# Altium footprint library Semiconductor.PcbLib: 12 footprints
Each footprint in its own frame and in the unit in brackets; x right, y up, seen from the top. Pads: shape width x height; smd on the part's side, far side on the other; paste and mask are expansions set on the pad; w line width, h text height; cw(c..) or ccw(c..) is an arc to the next point about the centre after c.
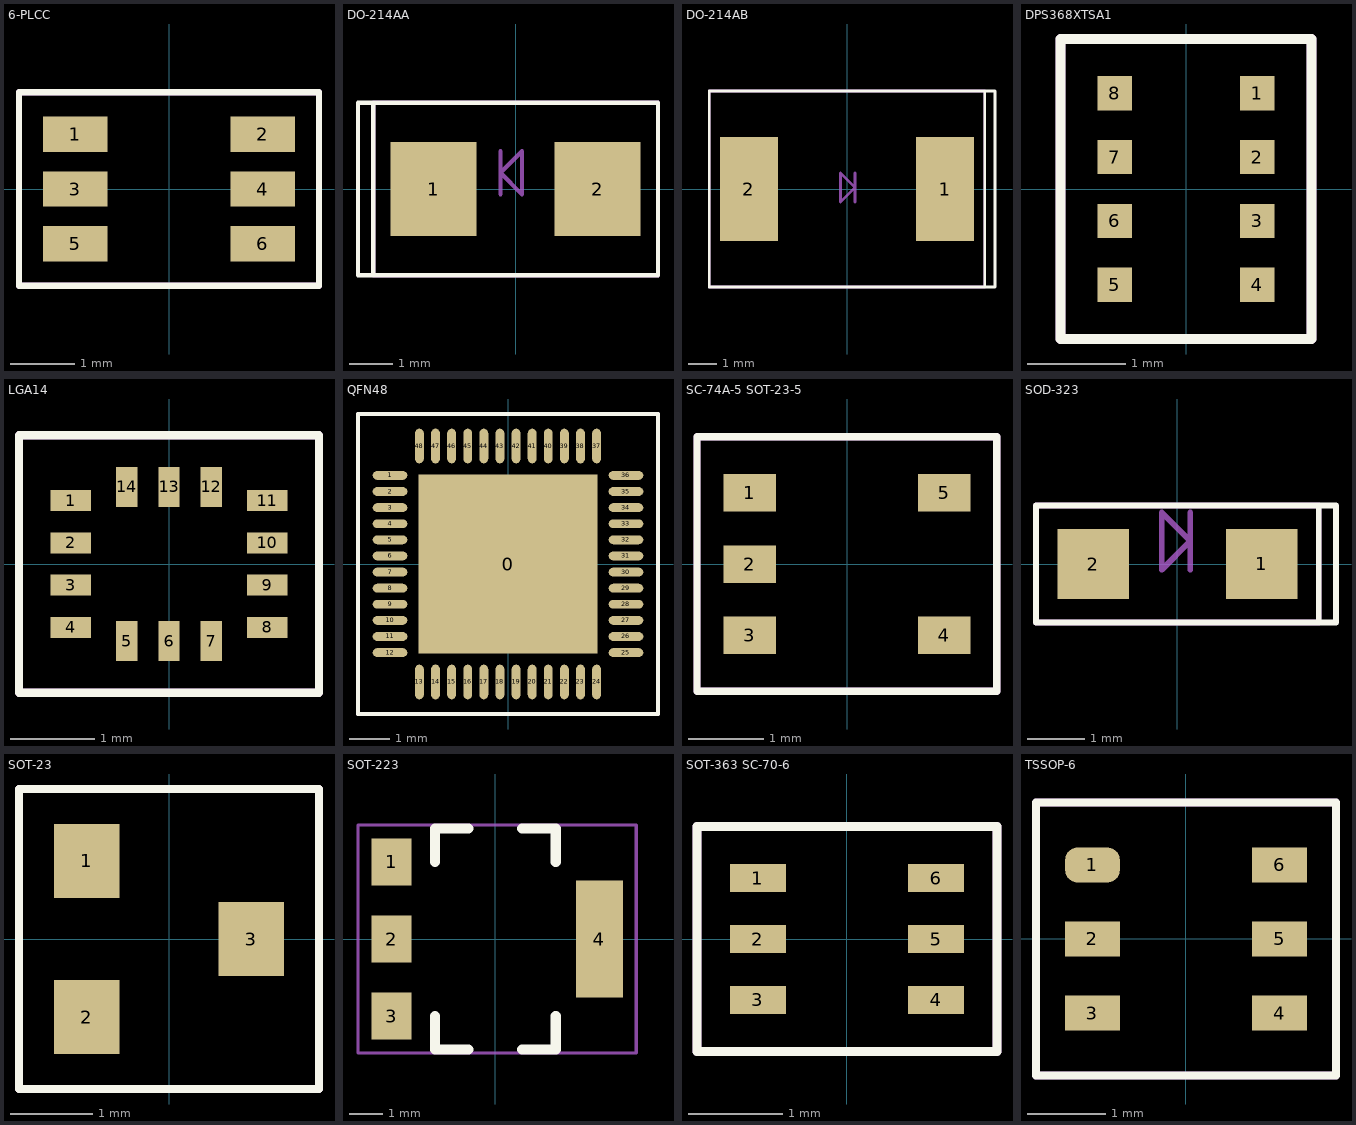
[diagram p0: the footprints below, top view; thin cyan lines are the x and y axes]

## 6-PLCC [mm] "6-PLCC"
pads (6):
  rect 1x0.55 smd: 1(-1.45,0.85) 2(1.45,0.85) 3(-1.45,0) 4(1.45,0) 5(-1.45,-0.85) 6(1.45,-0.85)
Top Overlay:
  lines w0.1: -2.325,-1.5 -2.325,1.5 2.325,1.5 ; -2.3,-1.5 2.325,-1.5 2.325,1.475
  text "." at -2.875,0.9 h0.7
Mechanical 12:
  lines w0.1: -2.325,-1.5 -2.325,1.5 2.325,1.5 ; -2.3,-1.5 2.325,-1.5 2.325,1.475
  text ".Designator" at -1.85,-0.425 h1
  text "1" at -1.55,0.55 h0.6
  text "2" at 1.3,0.6 h0.6
3D body: height 1.85, standoff 0, extent -1.75,-1.4 1.75,1.4

## DO-214AA [mm] "DO-214AA"
pads (2):
  rect 2x2.18 smd: 1(-1.9,0) 2(1.9,0)
Top Overlay:
  lines w0.1: -3.3,-2 3.3,-2 3.3,2 -3.3,2 ; -3.3,-2 -3.3,2 ; -3.3,-2 -3.65,-2 -3.65,2 -3.3,2
Mechanical 12:
  lines w0.1: -0.35,-0.125 -0.35,0.875 ; 0.15,-0.1 0.15,-0.125 ; 0.15,-0.125 0.15,0.875 -0.35,0.375 0.15,-0.125 ; -3.3,-2 -3.3,2 3.3,2 3.3,-2 -3.3,-2
  text ".Designator" at -1.225,-0.9 h0.6
3D body: height 2.45, standoff 0.03, extent -2.75,-1.95 2.75,1.95

## DO-214AB [mm] "DO-214AB"
pads (2):
  rect 2x3.6 smd: 1(3.4,0) 2(-3.4,0)
Top Overlay:
  lines w0.1: 4.775,-3.4 -4.775,-3.4 -4.775,3.4 4.775,3.4 ; 4.775,-3.4 4.775,3.4 ; 4.775,-3.4 5.125,-3.4 5.125,3.4 4.775,3.4
Mechanical 12:
  lines w0.1: -0.225,0.525 -0.225,0.55 ; 0.275,-0.45 0.275,0.55 ; -0.225,0.55 -0.225,-0.45 0.275,0.05 -0.225,0.55 ; -4.775,-3.4 -4.775,3.4 4.775,3.4 4.775,-3.4 -4.775,-3.4
  text ".Designator" at -2.85,1.1 h1.52
3D body: height 2.65, standoff 0, extent -4.075,-3.125 4.075,3.125

## DPS368XTSA1 [mm] "DPS368XTSA1"
pads (8):
  rect 0.35x0.35 smd paste-1: 1(0.725,0.975) 2(0.725,0.325) 3(0.725,-0.325) 4(0.725,-0.975) 5(-0.725,-0.975) 6(-0.725,-0.325) 7(-0.725,0.325) 8(-0.725,0.975)
Top Overlay:
  lines w0.1: -1.275,-1.525 1.275,-1.525 1.275,1.525 -0.525,1.525 -1.275,1.525 -1.275,-1.525
  text "." at 1.8,1.075 h0.7
Top Paste:
  circle w0.175: c-0.725,-0.975 r0.088
  circle w0.175: c-0.725,-0.325 r0.088
  circle w0.175: c-0.725,0.975 r0.088
  circle w0.175: c-0.725,0.325 r0.088
  circle w0.175: c0.725,-0.975 r0.088
  circle w0.175: c0.725,-0.325 r0.088
  circle w0.175: c0.725,0.975 r0.088
  circle w0.175: c0.725,0.325 r0.088
Mechanical 12:
  lines w0.1: -1.275,-1.525 -1.275,1.525 -0.525,1.525 1.275,1.525 1.275,-1.525 -1.275,-1.525
  text ".Designator" at -0.9,-0.25 h0.5
  text "1" at 0.675,0.75 h0.5
  text "8" at -0.9,0.75 h0.5
3D body: height 1, standoff 0, extent -1,-1.25 1,1.25

## LGA14 [mm] "LGA14"
pads (14):
  rect 0.475x0.25 smd: 1(-1.162,0.75) 2(-1.162,0.25) 3(-1.162,-0.25) 4(-1.162,-0.75) 8(1.162,-0.75) 9(1.162,-0.25) 10(1.162,0.25) 11(1.162,0.75)
  rect 0.25x0.475 smd: 5(-0.5,-0.913) 6(0,-0.913) 7(0.5,-0.913) 12(0.5,0.913) 13(0,0.913) 14(-0.5,0.913)
Top Overlay:
  lines w0.1: -1.775,-1.525 1.775,-1.525 1.775,1.525 -1.775,1.525 -1.775,-1.525
  text "." at -2.35,0.825 h0.7
Mechanical 12:
  lines w0.1: -1.775,-1.525 -1.775,1.525 1.775,1.525 1.775,-1.525 -1.775,-1.525
  text ".Designator" at -1.275,-0.325 h0.7
  text "1" at -1.375,0.625 h0.4
  text "14" at -0.8,0.925 h0.4
3D body: height 0.86, standoff -0.02, extent -1.5,-1.25 1.5,1.25

## QFN48 [mm] "QFN48"
pads (49):
  rect 4.45x4.45 smd: 0(0,0)
  oval 0.86x0.22 smd: 1(-2.93,2.2) 2(-2.93,1.8) 3(-2.93,1.4) 4(-2.93,1) 5(-2.93,0.6) 6(-2.93,0.2) 7(-2.93,-0.2) 8(-2.93,-0.6) 9(-2.93,-1) 10(-2.93,-1.4) 11(-2.93,-1.8) 12(-2.93,-2.2) 25(2.93,-2.2) 26(2.93,-1.8) 27(2.93,-1.4) 28(2.93,-1) 29(2.93,-0.6) 30(2.93,-0.2) 31(2.93,0.2) 32(2.93,0.6) 33(2.93,1) 34(2.93,1.4) 35(2.93,1.8) 36(2.93,2.2)
  oval 0.22x0.86 smd: 13(-2.2,-2.93) 14(-1.8,-2.93) 15(-1.4,-2.93) 16(-1,-2.93) 17(-0.6,-2.93) 18(-0.2,-2.93) 19(0.2,-2.93) 20(0.6,-2.93) 21(1,-2.93) 22(1.4,-2.93) 23(1.8,-2.93) 24(2.2,-2.93) 37(2.2,2.93) 38(1.8,2.93) 39(1.4,2.93) 40(1,2.93) 41(0.6,2.93) 42(0.2,2.93) 43(-0.2,2.93) 44(-0.6,2.93) 45(-1,2.93) 46(-1.4,2.93) 47(-1.8,2.93) 48(-2.2,2.93)
Top Overlay:
  lines w0.1: -3.725,-3.725 -3.725,3.725 3.725,3.725 3.725,-3.725 -3.725,-3.725
  text "." at -4.425,2.325 h0.7
Mechanical 12:
  lines w0.1: -3.725,-3.725 3.725,-3.725 3.725,3.725 -3.725,3.725 -3.725,-3.725
  text "48" at -2.775,2.875 h0.7
  text "1" at -3.225,1.975 h0.7
  text ".Designator" at -2.8,-0.525 h1.52
3D body: height 0.65, standoff -0.02, extent -3.02,-3.02 3.02,3.02

## SC-74A-5 SOT-23-5 [mm] "SC-74A-5 SOT-23-5"
pads (5):
  rect 0.7x0.5 smd: 1(-1.3,0.95) 2(-1.3,0) 3(-1.3,-0.95) 4(1.3,-0.95) 5(1.3,0.95)
Top Overlay:
  lines w0.1: -2,-1.7 -2,1.7 2,1.7 2,-1.7 -2,-1.7
  text "." at -2.5,0.95 h0.7
Mechanical 12:
  lines w0.1: -2,-1.7 2,-1.7 2,1.7 -2,1.7 -2,-1.7
  text "5" at 1.1,0.7 h0.6
  text "1" at -1.4,0.7 h0.6
  text ".Designator" at -1,-0.35 h0.6
  text "3" at -1.475,-1.275 h0.6
3D body: height 1.17, standoff -0.01, extent -1.412,-1.45 1.413,1.45

## SOD-323 [mm] "SOD-323"
pads (2):
  rect 1.25x1.22 smd: 1(1.475,0) 2(-1.475,0)
Top Overlay:
  lines w0.1: 2.475,-1.025 -2.475,-1.025 -2.475,1.025 2.475,1.025 ; 2.475,-1.025 2.475,1.025 ; 2.475,-1.025 2.775,-1.025 2.775,1.025 2.475,1.025
Mechanical 12:
  lines w0.1: -0.275,0.875 -0.275,0.9 ; 0.225,-0.1 0.225,0.9 ; -0.275,0.9 0.225,0.4 -0.275,-0.1 -0.275,0.9 ; -2.475,-1.025 2.475,-1.025 2.475,1.025 -2.475,1.025 -2.475,-1.025
  text ".Designator" at -1.225,-0.9 h0.6
3D body: height 1.16, standoff 0, extent -1.425,-0.75 1.425,0.75

## SOT-23 [mm] "SOT-23"
pads (3):
  rect 0.8x0.9 smd: 1(-1,0.95) 2(-1,-0.95) 3(1,0)
Top Overlay:
  lines w0.1: -1.825,-1.825 -1.825,1.825 1.825,1.825 1.825,-1.825 -1.825,-1.825
  text "." at -2.5,1 h1
Mechanical 12:
  lines w0.1: -1.825,-1.825 -1.825,1.825 1.825,1.825 1.825,-1.825 -1.825,-1.825
  text "1" at -1.05,0.625 h0.6
  text "2" at -1.175,-1.35 h0.6
  text ".Designator" at -1.025,-0.325 h0.6
3D body: height 1.2, standoff 0, extent -1.25,-1.5 1.25,1.5

## SOT-223 [mm] "SOT-223"
pads (4):
  rect 1.2x1.4 smd: 1(-3.1,2.3) 2(-3.1,0) 3(-3.1,-2.3)
  rect 1.4x3.5 smd: 4(3.1,0)
Top Overlay:
  lines w0.3: -1.8,-2.3 -1.8,-3.3 -0.8,-3.3 ; -1.8,2.3 -1.8,3.3 -0.8,3.3 ; 0.8,-3.3 1.8,-3.3 1.8,-2.3 ; 0.8,3.3 1.8,3.3 1.8,2.3
  text "." at -4.625,2.375 h0.7
Mechanical 12:
  lines w0.1: -4.1,-3.4 4.2,-3.4 4.2,3.4 -4.1,3.4 -4.1,-3.4
  text "1" at -3.3,1.7 h1.2
  text "4" at 2.7,-0.6 h1.2
  text ".Designator" at -2.35,-1.925 h1.3
3D body: height 1.7, standoff 0, extent -3.5,-3.25 3.5,3.25

## SOT-363 SC-70-6 [mm] "SOT-363 / SC-70-6"
pads (6):
  rect 0.6x0.3 smd: 1(-0.95,0.65) 2(-0.95,0) 3(-0.95,-0.65) 4(0.95,-0.65) 5(0.95,0) 6(0.95,0.65)
Top Overlay:
  lines w0.1: -1.6,-1.2 1.6,-1.2 1.6,1.2 -1.6,1.2 -1.6,-1.2
  text "." at -2.125,0.625 h0.7
Mechanical 12:
  lines w0.1: -1.6,-1.2 1.6,-1.2 1.6,1.2 -1.6,1.2 -1.6,-1.2
  text "3" at -1.125,-1.075 h0.6
  text "1" at -1.025,0.5 h0.6
  text ".Designator" at -1,-0.3 h0.6
  text "6" at 0.775,0.475 h0.6
3D body: height 1.05, standoff 0, extent -1,-1 1,1

## TSSOP-6 [mm] "TSSOP-6"
pads (6):
  rrect70% 0.7x0.45 smd: 1(-1.2,0.95)
  rect 0.7x0.45 smd: 2(-1.2,0) 3(-1.2,-0.95) 4(1.2,-0.95) 5(1.2,0) 6(1.2,0.95)
Top Overlay:
  lines w0.1: -1.925,-1.75 1.925,-1.75 1.925,1.75 -1.925,1.75 -1.925,-1.75
  text "." at -2.8,1 h0.7
Mechanical 12:
  lines w0.1: -1.925,-1.75 -1.925,1.75 1.925,1.75 1.925,-1.75 -1.925,-1.75
  text ".Designator" at -1.275,-0.3 h0.7
  text "1" at -1.3,0.675 h0.7
  text "6" at 0.975,0.7 h0.7
3D body: height 1.02, standoff 0.01, extent -1.375,-1.475 1.375,1.475